# Altium schematic symbol library Transistors.SchLib: 17 symbols
Pins are listed as number, name and electrical type; pins without a type are passive.

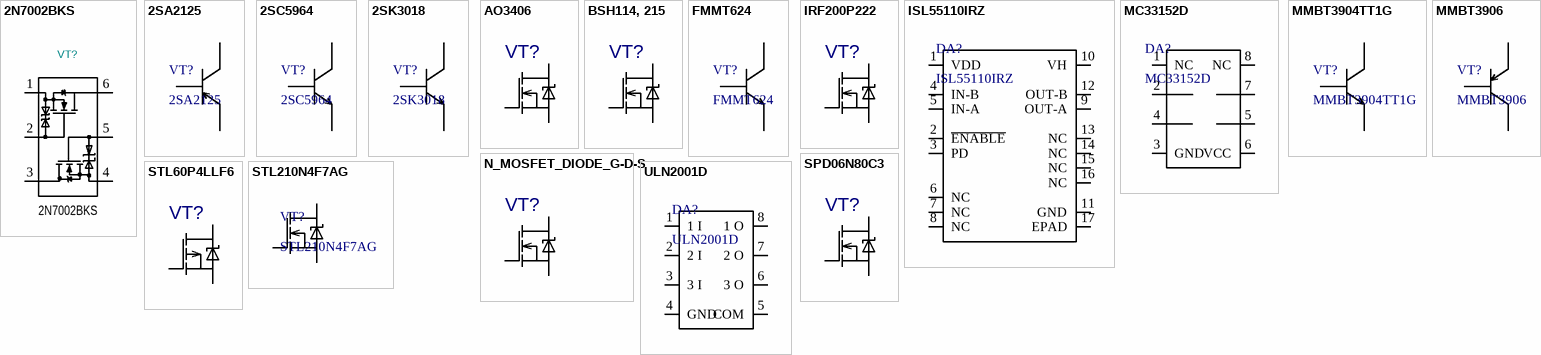
[diagram p0: symbols 2N7002BKS to ULN2001D]

## 2N7002BKS
designator VT?
PartNumber: 2N7002BKS.115; Footprint: Package_TO_SOT_SMD:SOT-363_SC-70-6; Value: 2N7002BKS
footprint SC70
pins: 1, 2, 3, 4, 5, 6

## 2SA2125
designator VT?
Bipolar Transistors - BJT DC-DC CONVERTER
footprint SOT-89-3
pins: 1 B, 2 C, 3 E

## 2SC5964
designator VT?
Bipolar Transistors - BJT Bipolar Transistor, (-)50V, (-)3A, Low VCE(sat), (PNP)NPN Single PCP
footprint SOT-89-3
pins: 1 B, 2 C, 3 E

## 2SK3018
designator VT?
Bipolar Transistors - BJT Bipolar Transistor, (-)50V, (-)3A, Low VCE(sat), (PNP)NPN Single PCP
footprint SOT-323
pins: 1 B, 2 E, 3 C

## AO3406
designator VT?  (value not drawn)
30V N-Channel MOSFET; Component_ID: *
footprint SOT-23-3
pins: D, G, S

## BSH114, 215
designator VT?  (value not drawn)
MOSFET TAPE7 PWR-MO; Component_ID: *
footprint SOT-23-3 t
pins: 1, 2, 3

## FMMT624
designator VT?
Bipolar Transistors - BJT NPN SuperSOT
footprint SOT-23-3 t
pins: 1 B, 2 E, 3 C

## IRF200P222
designator VT?  (value not drawn)
MOSFET  StrongIRFET; Component_ID: *
footprint TO-247AC
pins: 1, 2, 3

## ISL55110IRZ
designator DA?
Gate Drivers W/ANNEAL ULTRASOUND DRVR 16LD 4X4
footprint LQFP-16-4X4
pins: 1 VDD, 2 ~{ENABLE}, 3 PD, 4 IN-B, 5 IN-A, 6 NC, 7 NC, 8 NC, 9 OUT-A, 10 VH, 11 GND, 12 OUT-B, 13 NC, 14 NC, 15 NC, 16 NC, 17 EPAD

## MC33152D
designator DA?
MOSFET Driver, High Speed, Dual
footprint SOIC-8 (6x5x1.75 mm)
pins: 1 NC, 2 IA, 3 GND, 4 IB, 5 OB, 6 VCC, 7 OA, 8 NC

## MMBT3904TT1G
designator VT?
GENERAL PURPOSE / AMPLIFIER TRANSISTORS / SURFACE MOUNT
footprint SC75
pins: 1 B, 2 E, 3 C

## MMBT3906
designator VT?
40V 250mW 100@10mA,1V 200mA PNP SOT-23(TO-236) Bipolar Transistors - BJT ROHS
footprint SOT-23-3 t
pins: 1 B, 2 E, 3 C

## N_MOSFET_DIODE_G-D-S
designator VT?
N_MOSFET_DIODE_G-D-S; Component_ID: *
footprint TSDSON-8
pins: 1, 2, 3, 4, 5, 6, 7, 8

## SPD06N80C3
designator VT?  (value not drawn)
CoolMOS PowerTransistor N; Component_ID: *
footprint TSDSON-8
pins: 1, 2, 3

## STL60P4LLF6
designator VT?  (value not drawn)
P-channel 40 V, 11.5 mΩ typ., 60 A STripFET F6 Power MOSFET / in a PowerFLAT 5x6 package; Component_ID: *
footprint DFN 5X6
pins: 1 S, 4 G, 5 D

## STL210N4F7AG
designator VT?
40V 120A 150W 1.6mΩ@16A,10V 4V@250uA 1PCSNChannel PowerFLAT-8(5x6) MOSFETs ROHS
footprint DFN 5X6
pins: 1 S, 4 G, 5 D

## ULN2001D
designator DA?
Bipolar (BJT) Transistor Array 3 NPN Darlington 50V 500mA 625mW Surface Mount 8-SOP
footprint SOP-8
pins: 1 1 I, 2 2 I, 3 3 I, 4 GND, 5 COM, 6 3 O, 7 2 O, 8 1 O